# EAGLE library part XF2M-4015-WONKY (library cape)
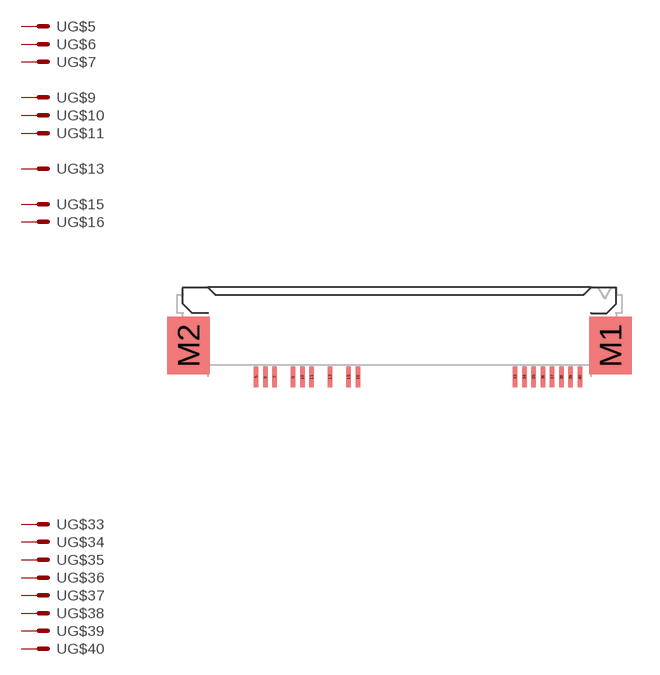
[diagram p8: symbol with the pads of XF2M-4015-WONKY; footprint XF2M-4015-WONKY]

Designator prefix -; gates G$5=PIN G$6=PIN G$7=PIN G$9=PIN G$10=PIN G$11=PIN G$13=PIN G$15=PIN G$16=PIN G$33=PIN G$34=PIN G$35=PIN G$36=PIN G$37=PIN G$38=PIN G$39=PIN G$40=PIN

## XF2M-4015-WONKY  [XF2M-4015-WONKY]
5  G$5:MS  pas
6  G$6:MS  pas
7  G$7:MS  pas
9  G$9:MS  pas
10  G$10:MS  pas
11  G$11:MS  pas
13  G$13:MS  pas
15  G$15:MS  pas
16  G$16:MS  pas
33  G$33:MS  pas
34  G$34:MS  pas
35  G$35:MS  pas
36  G$36:MS  pas
37  G$37:MS  pas
38  G$38:MS  pas
39  G$39:MS  pas
40  G$40:MS  pas

## Footprint XF2M-4015-WONKY (pad centres in mm)
smd 0.25 x 1.1: 5 -7.75,-2.54; 6 -7.25,-2.54; 7 -6.75,-2.54; 9 -5.75,-2.54; 10 -5.25,-2.54; 11 -4.75,-2.54; 13 -3.75,-2.54; 15 -2.75,-2.54; 16 -2.25,-2.54; 33 6.25,-2.54; 34 6.75,-2.54; 35 7.25,-2.54; 36 7.75,-2.54; 37 8.25,-2.54; 38 8.75,-2.54; 39 9.25,-2.54; 40 9.75,-2.54
smd 2.3 x 3.1: M1 11.4,-0.84; M2 -11.4,-0.84